# EAGLE library part EPF6016-P208 (library altera_pga84)
EPF6016 FLEX 6000 family
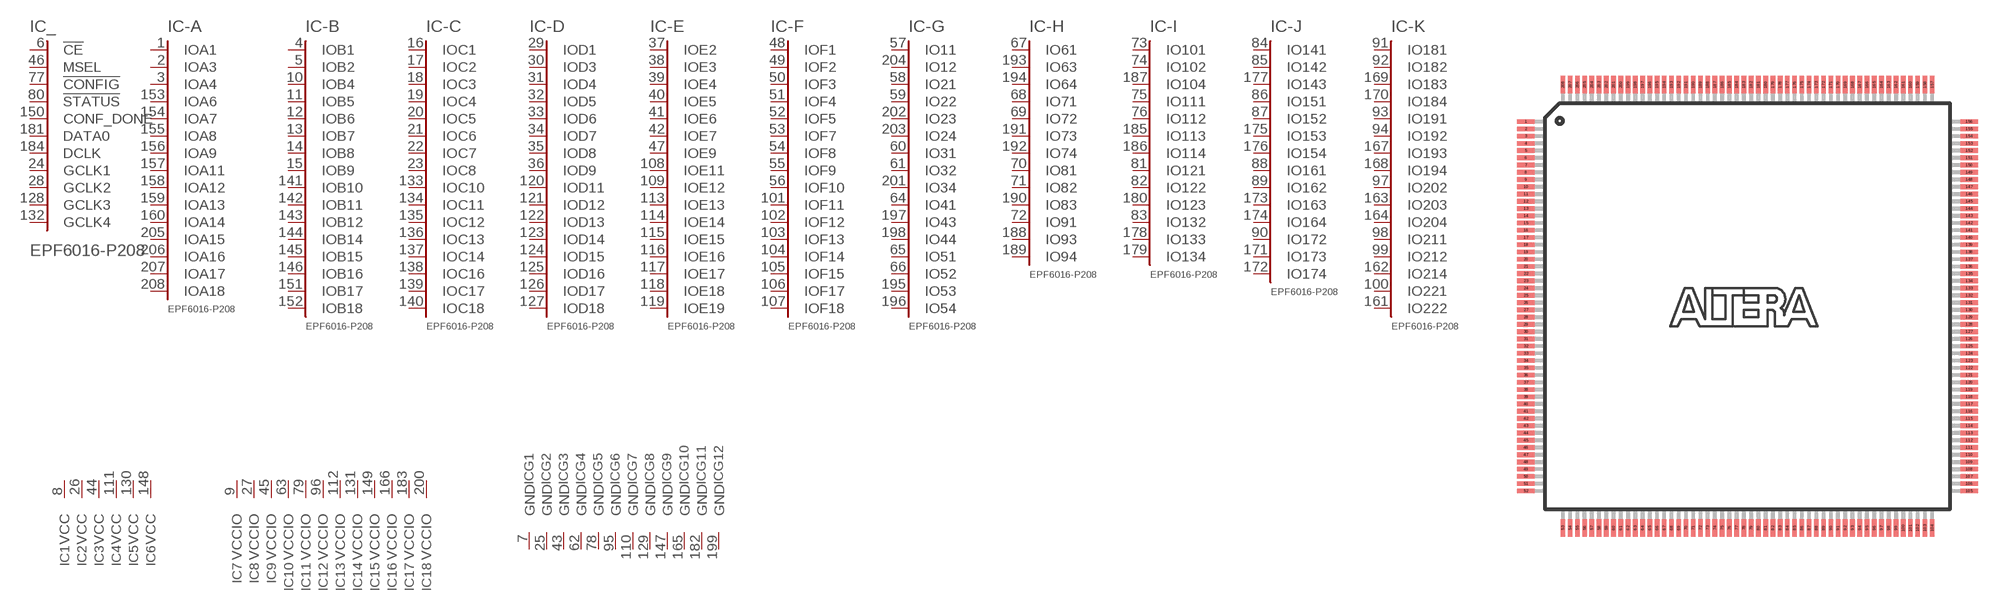
[diagram p58: symbol with the pads of PQFP208; footprint PQFP208]

Designator prefix IC; gates _=6016CONT 7=VCCIO 8=VCCIO 9=VCCIO 10=VCCIO 11=VCCIO 12=VCCIO 13=VCCIO 14=VCCIO 15=VCCIO 16=VCCIO 17=VCCIO 18=VCCIO G1=GND G2=GND G3=GND G4=GND G5=GND G6=GND G7=GND G8=GND G9=GND G10=GND G11=GND G12=GND -A=A15-18 -C=C16-18 -D=D16-18 -E=E16-19 -F=F16-19 -G=IO54-2 -H=IO94-3 -I=IO134-3 -J=IO174-2 -K=IO222-2 -B=B16-19 1=VCCINT 2=VCCINT 3=VCCINT 4=VCCINT 5=VCCINT 6=VCCINT

## EPF6016-P208 (MPN: EPF6016AQC208-3N; OC_FARNELL: 1549398; OC_NEWARK: 51R9156)  [PQFP208]
1  -A:IOA1
2  -A:IOA3
3  -A:IOA4
4  -B:IOB1
5  -B:IOB2
6  _:!CE  in
7  G1:GND  pwr
8  1:VCC  pwr
9  7:VCCIO  pwr
10  -B:IOB4
11  -B:IOB5
12  -B:IOB6
13  -B:IOB7
14  -B:IOB8
15  -B:IOB9
16  -C:IOC1
17  -C:IOC2
18  -C:IOC3
19  -C:IOC4
20  -C:IOC5
21  -C:IOC6
22  -C:IOC7
23  -C:IOC8
24  _:GCLK1
25  G2:GND  pwr
26  2:VCC  pwr
27  8:VCCIO  pwr
28  _:GCLK2
29  -D:IOD1
30  -D:IOD3
31  -D:IOD4
32  -D:IOD5
33  -D:IOD6
34  -D:IOD7
35  -D:IOD8
36  -D:IOD9
37  -E:IOE2
38  -E:IOE3
39  -E:IOE4
40  -E:IOE5
41  -E:IOE6
42  -E:IOE7
43  G3:GND  pwr
44  3:VCC  pwr
45  9:VCCIO  pwr
46  _:MSEL  in
47  -E:IOE9
48  -F:IOF1
49  -F:IOF2
50  -F:IOF3
51  -F:IOF4
52  -F:IOF5
53  -F:IOF7
54  -F:IOF8
55  -F:IOF9
56  -F:IOF10
57  -G:IO11
58  -G:IO21
59  -G:IO22
60  -G:IO31
61  -G:IO32
62  G4:GND  pwr
63  10:VCCIO  pwr
64  -G:IO41
65  -G:IO51
66  -G:IO52
67  -H:IO61
68  -H:IO71
69  -H:IO72
70  -H:IO81
71  -H:IO82
72  -H:IO91
73  -I:IO101
74  -I:IO102
75  -I:IO111
76  -I:IO112
77  _:!CONFIG  in
78  G5:GND  pwr
79  11:VCCIO  pwr
80  _:!STATUS  in
81  -I:IO121
82  -I:IO122
83  -I:IO132
84  -J:IO141
85  -J:IO142
86  -J:IO151
87  -J:IO152
88  -J:IO161
89  -J:IO162
90  -J:IO172
91  -K:IO181
92  -K:IO182
93  -K:IO191
94  -K:IO192
95  G6:GND  pwr
96  12:VCCIO  pwr
97  -K:IO202
98  -K:IO211
99  -K:IO212
100  -K:IO221
101  -F:IOF11
102  -F:IOF12
103  -F:IOF13
104  -F:IOF14
105  -F:IOF15
106  -F:IOF17
107  -F:IOF18
108  -E:IOE11
109  -E:IOE12
110  G7:GND  pwr
111  4:VCC  pwr
112  13:VCCIO  pwr
113  -E:IOE13
114  -E:IOE14
115  -E:IOE15
116  -E:IOE16
117  -E:IOE17
118  -E:IOE18
119  -E:IOE19
120  -D:IOD11
121  -D:IOD12
122  -D:IOD13
123  -D:IOD14
124  -D:IOD15
125  -D:IOD16
126  -D:IOD17
127  -D:IOD18
128  _:GCLK3
129  G8:GND  pwr
130  5:VCC  pwr
131  14:VCCIO  pwr
132  _:GCLK4
133  -C:IOC10
134  -C:IOC11
135  -C:IOC12
136  -C:IOC13
137  -C:IOC14
138  -C:IOC16
139  -C:IOC17
140  -C:IOC18
141  -B:IOB10
142  -B:IOB11
143  -B:IOB12
144  -B:IOB14
145  -B:IOB15
146  -B:IOB16
147  G9:GND  pwr
148  6:VCC  pwr
149  15:VCCIO  pwr
150  _:CONF_DONE  in
151  -B:IOB17
152  -B:IOB18
153  -A:IOA6
154  -A:IOA7
155  -A:IOA8
156  -A:IOA9
157  -A:IOA11
158  -A:IOA12
159  -A:IOA13
160  -A:IOA14
161  -K:IO222
162  -K:IO214
163  -K:IO203
164  -K:IO204
165  G10:GND  pwr
166  16:VCCIO  pwr
167  -K:IO193
168  -K:IO194
169  -K:IO183
170  -K:IO184
171  -J:IO173
172  -J:IO174
173  -J:IO163
174  -J:IO164
175  -J:IO153
176  -J:IO154
177  -J:IO143
178  -I:IO133
179  -I:IO134
180  -I:IO123
181  _:DATA0
182  G11:GND  pwr
183  17:VCCIO  pwr
184  _:DCLK  in
185  -I:IO113
186  -I:IO114
187  -I:IO104
188  -H:IO93
189  -H:IO94
190  -H:IO83
191  -H:IO73
192  -H:IO74
193  -H:IO63
194  -H:IO64
195  -G:IO53
196  -G:IO54
197  -G:IO43
198  -G:IO44
199  G12:GND  pwr
200  18:VCCIO  pwr
201  -G:IO34
202  -G:IO23
203  -G:IO24
204  -G:IO12
205  -A:IOA15
206  -A:IOA16
207  -A:IOA17
208  -A:IOA18

## Footprint PQFP208 (pad centres in mm)
Plastic Quad Flat Pack
smd 1.2 x 0.32: 1 -15.3,12.75; 2 -15.3,12.25; 3 -15.3,11.75; 4 -15.3,11.25; 5 -15.3,10.75; 6 -15.3,10.25; 7 -15.3,9.75; 8 -15.3,9.25; 9 -15.3,8.75; 10 -15.3,8.25; 11 -15.3,7.75; 12 -15.3,7.25; 13 -15.3,6.75; 14 -15.3,6.25; 15 -15.3,5.75; 16 -15.3,5.25; 17 -15.3,4.75; 18 -15.3,4.25; 19 -15.3,3.75; 20 -15.3,3.25; 21 -15.3,2.75; 22 -15.3,2.25; 23 -15.3,1.75; 24 -15.3,1.25; 25 -15.3,0.75; 26 -15.3,0.25; 27 -15.3,-0.25; 28 -15.3,-0.75; 29 -15.3,-1.25; 30 -15.3,-1.75; 31 -15.3,-2.25; 32 -15.3,-2.75; 33 -15.3,-3.25; 34 -15.3,-3.75; 35 -15.3,-4.25; 36 -15.3,-4.75; 37 -15.3,-5.25; 38 -15.3,-5.75; 39 -15.3,-6.25; 40 -15.3,-6.75; 41 -15.3,-7.25; 42 -15.3,-7.75; 43 -15.3,-8.25; 44 -15.3,-8.75; 45 -15.3,-9.25; 46 -15.3,-9.75; 47 -15.3,-10.25; 48 -15.3,-10.75; 49 -15.3,-11.25; 50 -15.3,-11.75; 51 -15.3,-12.25; 52 -15.3,-12.75; 105 15.3,-12.75; 106 15.3,-12.25; 107 15.3,-11.75; 108 15.3,-11.25; 109 15.3,-10.75; 110 15.3,-10.25; 111 15.3,-9.75; 112 15.3,-9.25; 113 15.3,-8.75; 114 15.3,-8.25; 115 15.3,-7.75; 116 15.3,-7.25; 117 15.3,-6.75; 118 15.3,-6.25; 119 15.3,-5.75; 120 15.3,-5.25; 121 15.3,-4.75; 122 15.3,-4.25; 123 15.3,-3.75; 124 15.3,-3.25; 125 15.3,-2.75; 126 15.3,-2.25; 127 15.3,-1.75; 128 15.3,-1.25; 129 15.3,-0.75; 130 15.3,-0.25; 131 15.3,0.25; 132 15.3,0.75; 133 15.3,1.25; 134 15.3,1.75; 135 15.3,2.25; 136 15.3,2.75; 137 15.3,3.25; 138 15.3,3.75; 139 15.3,4.25; 140 15.3,4.75; 141 15.3,5.25; 142 15.3,5.75; 143 15.3,6.25; 144 15.3,6.75; 145 15.3,7.25; 146 15.3,7.75; 147 15.3,8.25; 148 15.3,8.75; 149 15.3,9.25; 150 15.3,9.75; 151 15.3,10.25; 152 15.3,10.75; 153 15.3,11.25; 154 15.3,11.75; 155 15.3,12.25; 156 15.3,12.75
smd 0.32 x 1.2: 53 -12.75,-15.3; 54 -12.25,-15.3; 55 -11.75,-15.3; 56 -11.25,-15.3; 57 -10.75,-15.3; 58 -10.25,-15.3; 59 -9.75,-15.3; 60 -9.25,-15.3; 61 -8.75,-15.3; 62 -8.25,-15.3; 63 -7.75,-15.3; 64 -7.25,-15.3; 65 -6.75,-15.3; 66 -6.25,-15.3; 67 -5.75,-15.3; 68 -5.25,-15.3; 69 -4.75,-15.3; 70 -4.25,-15.3; 71 -3.75,-15.3; 72 -3.25,-15.3; 73 -2.75,-15.3; 74 -2.25,-15.3; 75 -1.75,-15.3; 76 -1.25,-15.3; 77 -0.75,-15.3; 78 -0.25,-15.3; 79 0.25,-15.3; 80 0.75,-15.3; 81 1.25,-15.3; 82 1.75,-15.3; 83 2.25,-15.3; 84 2.75,-15.3; 85 3.25,-15.3; 86 3.75,-15.3; 87 4.25,-15.3; 88 4.75,-15.3; 89 5.25,-15.3; 90 5.75,-15.3; 91 6.25,-15.3; 92 6.75,-15.3; 93 7.25,-15.3; 94 7.75,-15.3; 95 8.25,-15.3; 96 8.75,-15.3; 97 9.25,-15.3; 98 9.75,-15.3; 99 10.25,-15.3; 100 10.75,-15.3; 101 11.25,-15.3; 102 11.75,-15.3; 103 12.25,-15.3; 104 12.75,-15.3; 157 12.75,15.3; 158 12.25,15.3; 159 11.75,15.3; 160 11.25,15.3; 161 10.75,15.3; 162 10.25,15.3; 163 9.75,15.3; 164 9.25,15.3; 165 8.75,15.3; 166 8.25,15.3; 167 7.75,15.3; 168 7.25,15.3; 169 6.75,15.3; 170 6.25,15.3; 171 5.75,15.3; 172 5.25,15.3; 173 4.75,15.3; 174 4.25,15.3; 175 3.75,15.3; 176 3.25,15.3; 177 2.75,15.3; 178 2.25,15.3; 179 1.75,15.3; 180 1.25,15.3; 181 0.75,15.3; 182 0.25,15.3; 183 -0.25,15.3; 184 -0.75,15.3; 185 -1.25,15.3; 186 -1.75,15.3; 187 -2.25,15.3; 188 -2.75,15.3; 189 -3.25,15.3; 190 -3.75,15.3; 191 -4.25,15.3; 192 -4.75,15.3; 193 -5.25,15.3; 194 -5.75,15.3; 195 -6.25,15.3; 196 -6.75,15.3; 197 -7.25,15.3; 198 -7.75,15.3; 199 -8.25,15.3; 200 -8.75,15.3; 201 -9.25,15.3; 202 -9.75,15.3; 203 -10.25,15.3; 204 -10.75,15.3; 205 -11.25,15.3; 206 -11.75,15.3; 207 -12.25,15.3; 208 -12.75,15.3